# Altium schematic symbol library VJ0805A681KXCAP.SchLib: 1 symbol
Pins are listed as number, name and electrical type; pins without a type are passive.

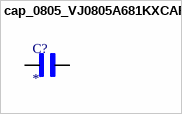
[diagram p0: symbol cap_0805_VJ0805A681KXCAP]

## cap_0805_VJ0805A681KXCAP
designator C?
CAP  0805; MF: Vishay Vitramon; MP: VJ0805A681KXCAP; SnapEDA_Link: https://www.snapeda.com/parts/VJ0805A681KXCAP/Vishay/view-part/?ref=snap; Package: 2012 Vishay Vitramon; Value: *; Check_prices: https://www.snapeda.com/parts/VJ0805A681KXCAP/Vishay/view-part/?ref=eda
footprint CAPC2012X145N
pins: 1, 2